# EAGLE library part A4960 (library neels)
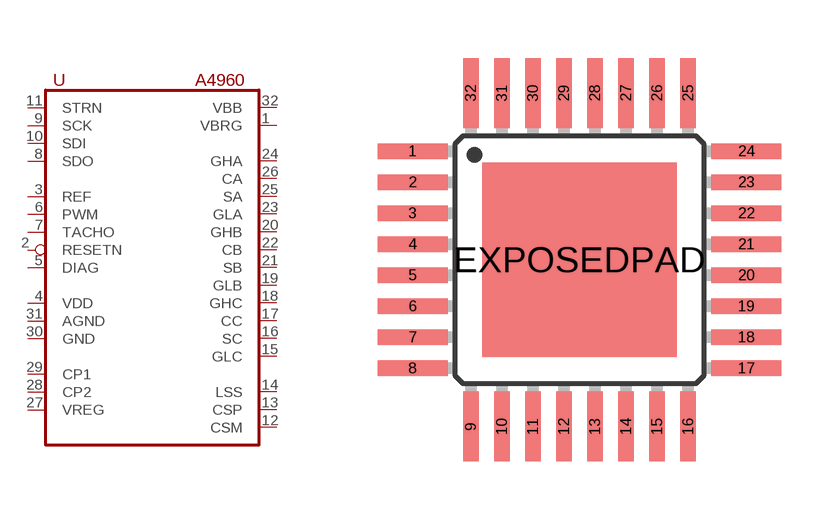
[diagram p12: symbol with the pads of LQFP32-7X7; footprint LQFP32-7X7]

Designator prefix -

## A4960  [LQFP32-7X7]
1  VBRG
2  RESETN
3  REF
4  VDD
5  DIAG
6  PWM
7  TACHO
8  SDO
9  SCK
10  SDI
11  STRN
12  CSM
13  CSP
14  LSS
15  GLC
16  SC
17  CC
18  GHC
19  GLB
20  GHB
21  SB
22  CB
23  GLA
24  GHA
25  SA
26  CA
27  VREG
28  CP2
29  CP1
30  GND
31  AGND
32  VBB

## Footprint LQFP32-7X7 (pad centres in mm)
LQFP-32 package 7x7 mm case, 0.8 mm lead pitch Sourced: Data sheet <http://www.st.com/stonline/products/literature/ds/14771/stm8s105c4.pdf>
smd 1.8 x 0.4: 1 -4.3,2.8; 2 -4.3,2; 3 -4.3,1.2; 4 -4.3,0.4; 5 -4.3,-0.4; 6 -4.3,-1.2; 7 -4.3,-2; 8 -4.3,-2.8; 17 4.3,-2.8; 18 4.3,-2; 19 4.3,-1.2; 20 4.3,-0.4; 21 4.3,0.4; 22 4.3,1.2; 23 4.3,2; 24 4.3,2.8
smd 0.4 x 1.8: 9 -2.8,-4.3; 10 -2,-4.3; 11 -1.2,-4.3; 12 -0.4,-4.3; 13 0.4,-4.3; 14 1.2,-4.3; 15 2,-4.3; 16 2.8,-4.3; 25 2.8,4.3; 26 2,4.3; 27 1.2,4.3; 28 0.4,4.3; 29 -0.4,4.3; 30 -1.2,4.3; 31 -2,4.3; 32 -2.8,4.3
smd 5 x 5: EXPOSEDPAD 0,0